# Altium schematic symbol library Micro Switch.SchLib: 6 symbols
Pins are listed as number, name and electrical type; pins without a type are passive.

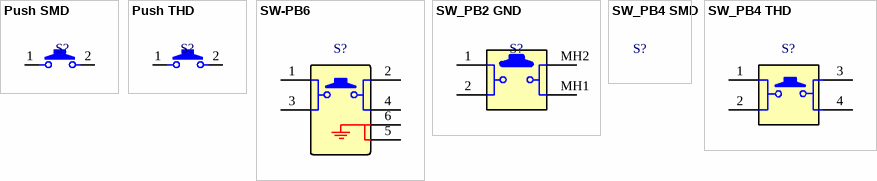
[diagram p0: symbols Push SMD to SW_PB4 THD]

## Push SMD
designator S?
Push SMD; DatasheetVersion: 2022
pins: 1 Button, 2

## Push THD
designator S?
Push THD; DatasheetVersion: 2022
pins: 1 Button, 2

## SW-PB6
designator S?
SW-PB6; DatasheetVersion: 2022
pins: 1, 2, 3, 4, 5, 6

## SW_PB2 GND
designator S?
SW_PB2 GND; DatasheetVersion: 2022
pins: 1, 2, MH1, MH2

## SW_PB4 SMD
designator S?
SW_PB4 SMD; DatasheetVersion: 2022

## SW_PB4 THD
designator S?
SW_PB4 THD; DatasheetVersion: 2022
pins: 1, 2, 3, 4